# EAGLE library part 22-05-3071 (library con-molex-kk)
HEADER
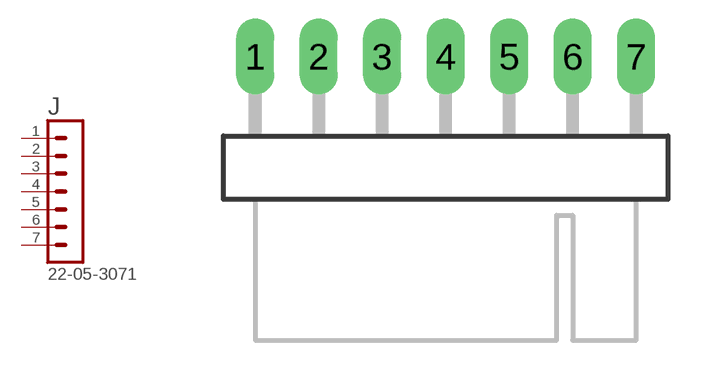
[diagram p175: symbol with the pads of 22-05-3071; footprint 22-05-3071]

Designator prefix J

## 22-05-3071  [22-05-3071]
1  1  pas
2  2  pas
3  3  pas
4  4  pas
5  5  pas
6  6  pas
7  7  pas

## Footprint 22-05-3071 (pad centres in mm)
HEADER
drill 1.016 long: 1 -7.62,0; 2 -5.08,0; 3 -2.54,0; 4 0,0; 5 2.54,0; 6 5.08,0; 7 7.62,0